# Altium schematic symbol library SCH - POWER - LINEAR VREG - DIODES INC AP7354 3PIN.SCHLIB: 1 symbol
Pins are listed as number, name and electrical type; pins without a type are passive.

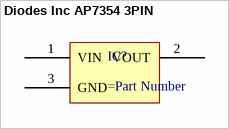
[diagram p0: symbol Diodes Inc AP7354 3PIN]

## Diodes Inc AP7354 3PIN
designator IC?
150mA Low quiescent current fast transient low drop out linear regulator
pins: 1 VIN, 2 VOUT, 3 GND